# EAGLE library part BLE-NANO (library BLE-NANO)
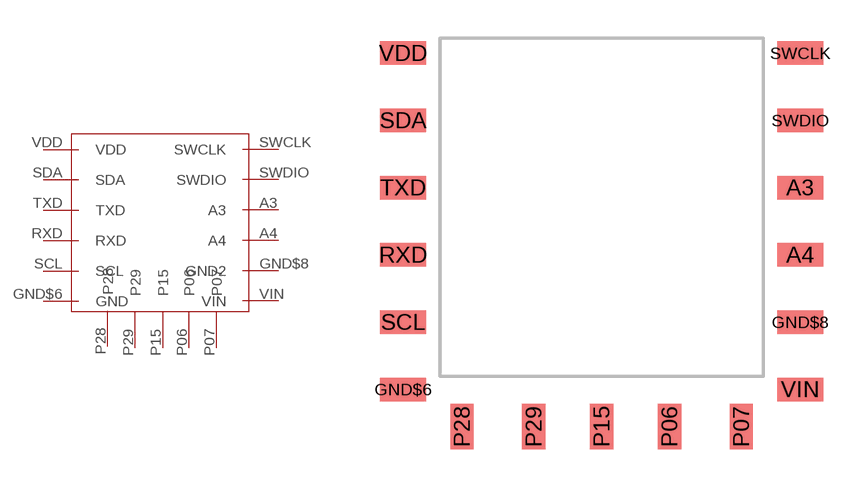
[diagram p0: symbol with the pads of BLE-NANO-PKG; footprint BLE-NANO-PKG]

Designator prefix -

## BLE-NANO  [BLE-NANO-PKG]
A3  A3
A4  A4
GND$6  GND
GND$8  GND2
P06  P06
P07  P07
P15  P15
P28  P28
P29  P29
RXD  RXD
SCL  SCL
SDA  SDA
SWCLK  SWCLK
SWDIO  SWDIO
TXD  TXD
VDD  VDD
VIN  VIN

## Footprint BLE-NANO-PKG (pad centres in mm)
smd 1.778 x 0.914: A3 7.75,4.375; A4 7.75,1.75; GND$6 -7.75,-3.5; GND$8 7.75,-0.875; RXD -7.75,1.75; SCL -7.75,-0.875; SDA -7.75,7; SWCLK 7.75,9.625; SWDIO 7.75,7; TXD -7.75,4.375; VDD -7.75,9.625; VIN 7.75,-3.5
smd 0.914 x 1.778: P06 2.65,-4.95; P07 5.45,-4.95; P15 0,-4.95; P28 -5.45,-4.95; P29 -2.65,-4.95